# EAGLE library part NANO-33-IOT (library deiring-components)
Arduino® Nano 33 IoT
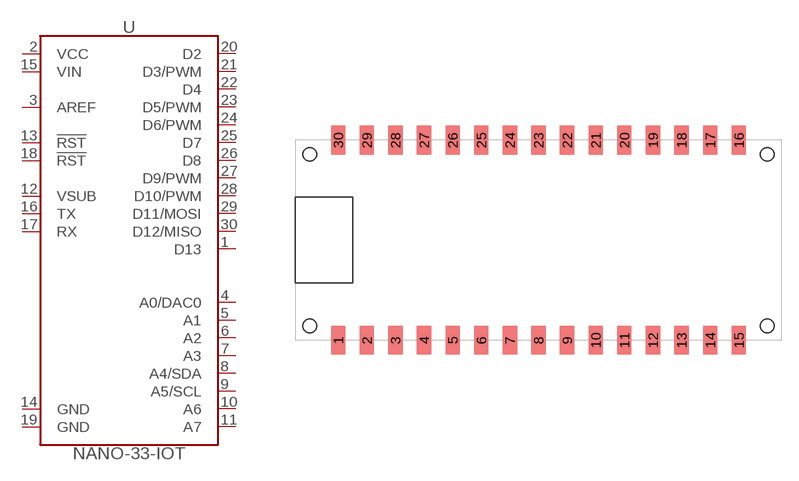
[diagram p8: symbol with the pads of NANO-33-IOT; footprint NANO-33-IOT]

Designator prefix U

## NANO-33-IOT (MF: Arduino; MPN: ABX00027; VALUE: NANO-33-IOT)  [NANO-33-IOT]
1  D13
2  VCC  pwr
3  AREF
4  A0/DAC0
5  A1
6  A2
7  A3
8  A4/SDA
9  A5/SCL
10  A6
11  A7
12  VSUB
13  !RST
14  GND  pwr
15  VIN
16  TX
17  RX
18  !RST
19  GND  pwr
20  D2
21  D3/PWM
22  D4
23  D5/PWM
24  D6/PWM
25  D7
26  D8
27  D9/PWM
28  D10/PWM
29  D11/MOSI
30  D12/MISO

## Footprint NANO-33-IOT (pad centres in mm)
smd 1.27 x 2.54: 1 -17.78,-8.89; 2 -15.24,-8.89; 3 -12.7,-8.89; 4 -10.16,-8.89; 5 -7.62,-8.89; 6 -5.08,-8.89; 7 -2.54,-8.89; 8 0,-8.89; 9 2.54,-8.89; 10 5.08,-8.89; 11 7.62,-8.89; 12 10.16,-8.89; 13 12.7,-8.89; 14 15.24,-8.89; 15 17.78,-8.89; 16 17.78,8.89; 17 15.24,8.89; 18 12.7,8.89; 19 10.16,8.89; 20 7.62,8.89; 21 5.08,8.89; 22 2.54,8.89; 23 0,8.89; 24 -2.54,8.89; 25 -5.08,8.89; 26 -7.62,8.89; 27 -10.16,8.89; 28 -12.7,8.89; 29 -15.24,8.89; 30 -17.78,8.89